# EAGLE library part MC9S08QD4 (library MC9S08QD4)
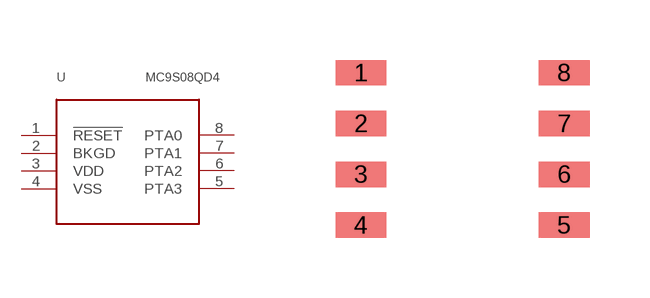
[diagram p0: symbol with the pads of MC9S08QD4; footprint MC9S08QD4]

Designator prefix -

## MC9S08QD4  [MC9S08QD4]
1  !RESET
2  BKGD
3  VDD
4  VSS
5  PTA3
6  PTA2
7  PTA1
8  PTA0

## Footprint MC9S08QD4 (pad centres in mm)
smd 1.27 x 0.635: 1 -3.81,3.81; 2 -3.81,2.54; 3 -3.81,1.27; 4 -3.81,0; 5 1.27,0; 6 1.27,1.27; 7 1.27,2.54; 8 1.27,3.81